# EAGLE library part 0532611471_PICOBLADE (library open_covg)
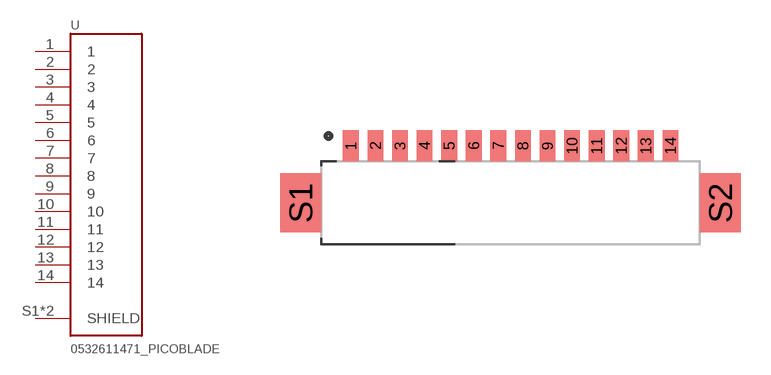
[diagram p21: symbol with the pads of MOLEX_0532611471; footprint MOLEX_0532611471]

Designator prefix -

## 0532611471_PICOBLADE  [MOLEX_0532611471]
1  1  pas
2  2  pas
3  3  pas
4  4  pas
5  5  pas
6  6  pas
7  7  pas
8  8  pas
9  9  pas
10  10  pas
11  11  pas
12  12  pas
13  13  pas
14  14  pas
S1  SHIELD  pas
S2  SHIELD  pas

## Footprint MOLEX_0532611471 (pad centres in mm)
smd 0.8 x 1.6: 1 -17.115,3.81; 2 -15.865,3.81; 3 -14.615,3.81; 4 -13.365,3.81; 5 -12.115,3.81; 6 -10.865,3.81; 7 -9.615,3.81; 8 -8.365,3.81; 9 -7.115,3.81; 10 -5.865,3.81; 11 -4.615,3.81; 12 -3.365,3.81; 13 -2.115,3.81; 14 -0.865,3.81
smd 2.1 x 3: S1 -19.665,0.91; S2 1.675,0.91